# EAGLE library part TFT_128_128 (library D21_v39)
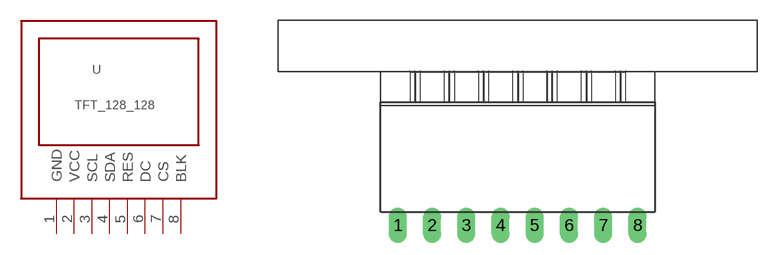
[diagram p2: symbol with the pads of TFT_1_8; footprint TFT_1_8]

Designator prefix U

## TFT_128_128  [TFT_1_8]
1  GND  pwr
2  VCC  pwr
3  SCL  in
4  SDA  in
5  RES  in
6  DC  in
7  CS  in
8  BLK  pwr

## Footprint TFT_1_8 (pad centres in mm)
FEMALE HEADER
drill 0.813 long: 1 -8.89,-11.43; 2 -6.35,-11.43; 3 -3.81,-11.43; 4 -1.27,-11.43; 5 1.27,-11.43; 6 3.81,-11.43; 7 6.35,-11.43; 8 8.89,-11.43